# Altium schematic symbol library RAPC732X.SchLib: 1 symbol
Pins are listed as number, name and electrical type; pins without a type are passive.

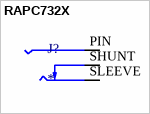
[diagram p0: symbol RAPC732X]

## RAPC732X
designator J?
Power Barrel Connector Jack 2.50mm ID (0.098"), 5.50mm OD (0.217") Through Hole, Right Angle; MP: RAPC732X; Package: None; Price: None; Value: *; Availability: Unavailable
footprint SWITCHCRAFT_RAPC732X
pins: PIN, SHUNT, SLEEVE